# EAGLE library part BTS712N1 (library platypus)
Smart Four Channel Highside Power Switch N channel vertical power FET with charge pump, ground referenced CMOS compatible input and diagnostic feedback, monolithically integrated in Smart SIPMOS technology. Providing embedded protective functions.
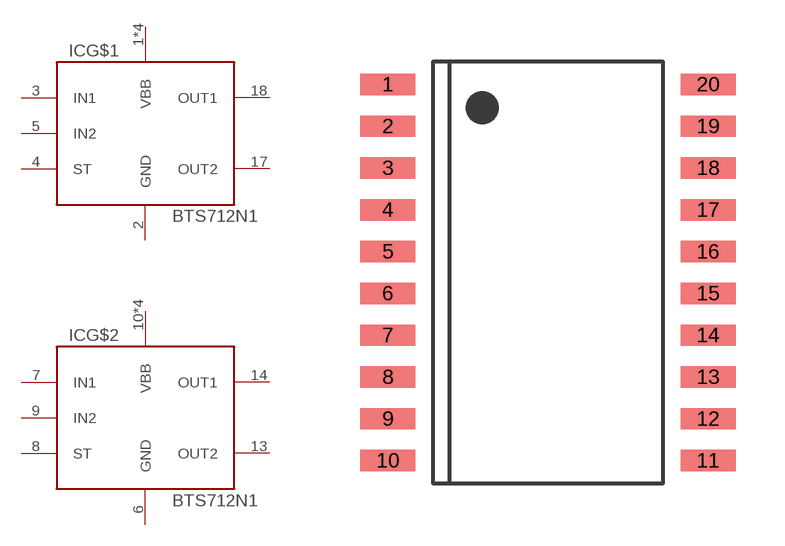
[diagram p1: symbol with the pads of PG-DSO-20; footprint PG-DSO-20]

Designator prefix IC; gates G$1=BTS712N1 G$2=BTS712N1

## BTS712N1 (MF: Infineon; MPN: BTS712N1)  [PG-DSO-20]
1  G$1:VBB  pwr
2  G$1:GND  pwr
3  G$1:IN1  in
4  G$1:ST
5  G$1:IN2  in
6  G$2:GND  pwr
7  G$2:IN1  in
8  G$2:ST
9  G$2:IN2  in
10  G$2:VBB  pwr
11  G$2:VBB  pwr
12  G$2:VBB  pwr
13  G$2:OUT2  out
14  G$2:OUT1  out
15  G$2:VBB  pwr
16  G$1:VBB  pwr
17  G$1:OUT2  out
18  G$1:OUT1  out
19  G$1:VBB  pwr
20  G$1:VBB  pwr

## Footprint PG-DSO-20 (pad centres in mm)
smd 1.67 x 0.65: 1 -4.865,5.715; 2 -4.865,4.445; 3 -4.865,3.175; 4 -4.865,1.905; 5 -4.865,0.635; 6 -4.865,-0.635; 7 -4.865,-1.905; 8 -4.865,-3.175; 9 -4.865,-4.445; 10 -4.865,-5.715; 11 4.865,-5.715; 12 4.865,-4.445; 13 4.865,-3.175; 14 4.865,-1.905; 15 4.865,-0.635; 16 4.865,0.635; 17 4.865,1.905; 18 4.865,3.175; 19 4.865,4.445; 20 4.865,5.715